# EAGLE library part 744C083 (library nebrius)
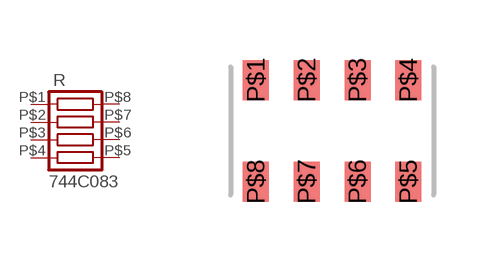
[diagram p3: symbol with the pads of 2012-4N-CONCAVE; footprint 2012-4N-CONCAVE]

Designator prefix R

## 744C083  [2012-4N-CONCAVE]
P$1  1  pas
P$2  2  pas
P$3  3  pas
P$4  4  pas
P$5  5  pas
P$6  6  pas
P$7  7  pas
P$8  8  pas

## Footprint 2012-4N-CONCAVE (pad centres in mm)
smd 0.65 x 1: P$1 -1.905,1.27; P$2 -0.635,1.27; P$3 0.635,1.27; P$4 1.905,1.27; P$5 1.905,-1.27; P$6 0.635,-1.27; P$7 -0.635,-1.27; P$8 -1.905,-1.27